# EAGLE library part IM920_BD (library IM920_Board)
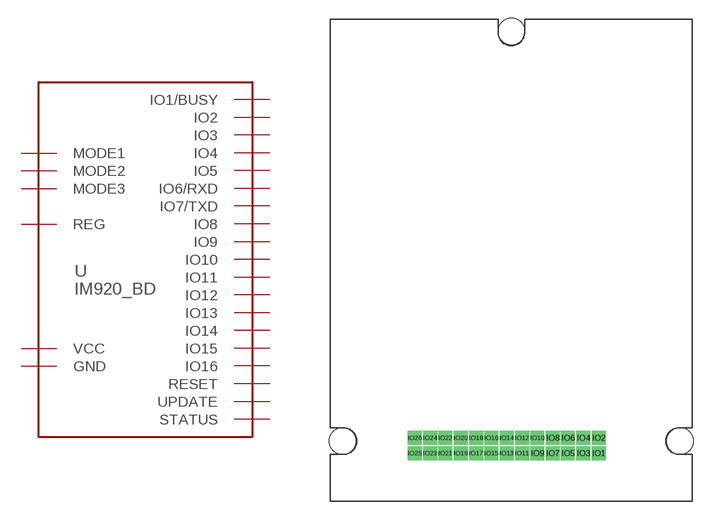
[diagram p0: symbol with the pads of IM920_BD; footprint IM920_BD]

Designator prefix -

## IM920_BD  [IM920_BD]
IO1  IO1/BUSY
IO2  IO2
IO3  IO3
IO4  IO4
IO5  IO5
IO6  IO6/RXD
IO7  IO7/TXD
IO8  IO8
IO9  IO9
IO10  IO10
IO11  IO11
IO12  IO12
IO13  IO13
IO14  IO14
IO15  IO15
IO16  IO16
IO17  MODE1
IO18  MODE2
IO19  MODE3
IO20  UPDATE
IO21  STATUS
IO22  REG
IO23  VCC
IO24  GND
IO25  RESET

## Footprint IM920_BD (pad centres in mm)
drill 0.65 pad 0.889 square: IO1 7.24,-16; IO2 7.24,-14.73; IO3 5.97,-16; IO4 5.97,-14.73; IO5 4.7,-16; IO6 4.7,-14.73; IO7 3.43,-16; IO8 3.43,-14.73; IO9 2.16,-16; IO10 2.16,-14.73; IO11 0.89,-16; IO12 0.89,-14.73; IO13 -0.38,-16; IO14 -0.38,-14.73; IO15 -1.65,-16; IO16 -1.65,-14.73; IO17 -2.92,-16; IO18 -2.92,-14.73; IO19 -4.19,-16; IO20 -4.19,-14.73; IO21 -5.46,-16; IO22 -5.46,-14.73; IO23 -6.73,-16; IO24 -6.73,-14.73; IO25 -8,-16; IO26 -8,-14.73
hole 2.2 at -14,-15
hole 2.2 at 14,-15
hole 2.2 at 0,19